# Altium schematic symbol library UOMP diode.SchLib: 20 symbols
Pins are listed as number, name and electrical type; pins without a type are passive.

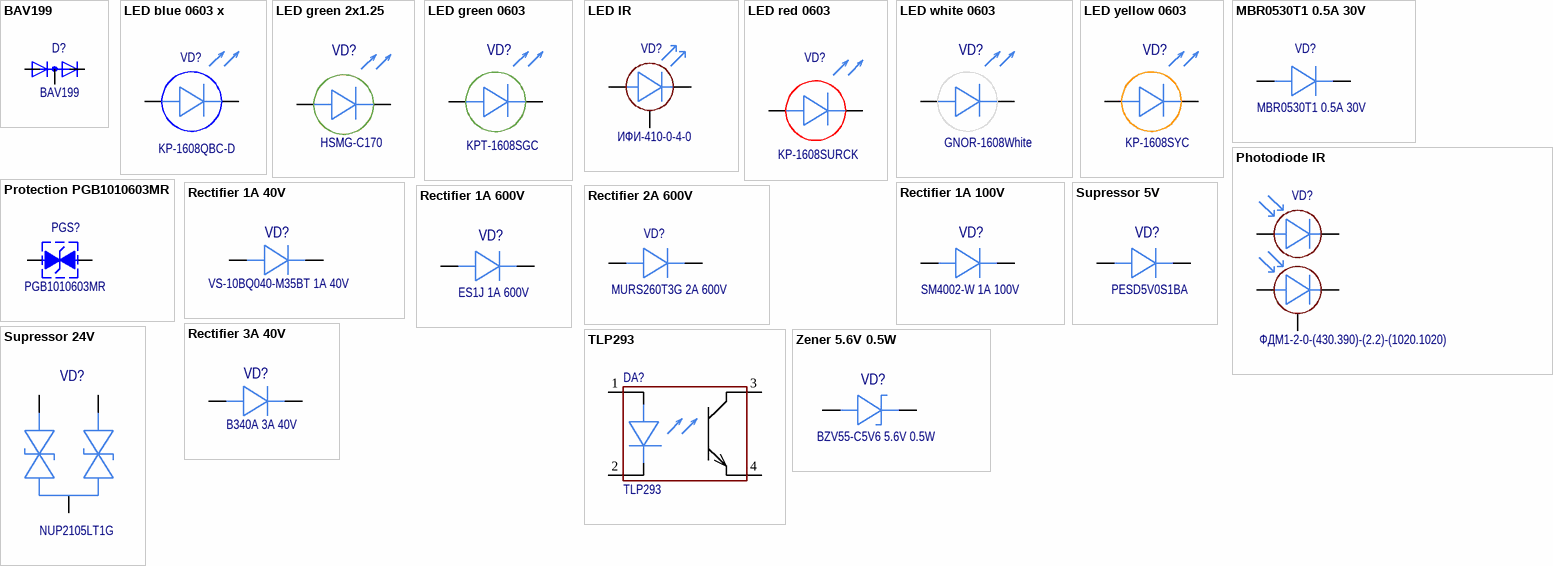
[diagram p0: symbols BAV199 to Zener 5.6V 0.5W]

## BAV199
designator D?
footprint IC: SOT 23
pins: 1 A, 2 C, 3 AC

## LED blue 0603 x
designator VD?, comment KP-1608QBC-D
Code: 6349991371; Name: Светодиод KP-1608QBC-D, KB
footprint DIODE: LED 0603(1608) blue
pins: 1, 2

## LED green 2x1.25
designator VD?, comment HSMG-C170
Code: 6349559170; Name: Светодиод HSMG-C170
footprint DIODE: LED 2x1.25
pins: 1, 2

## LED green 0603
designator VD?, comment KPT-1608SGC
Code: 6340003921; Name: Светодиод KPT-1608SGC, Kingbright
footprint DIODE: LED 0603(1608) green
pins: 1, 2

## LED IR
designator VD?, comment ИФИ-410-0-4-0
Code: 6349984601; Name: ИФИ-410-0-4-0
footprint DIODE: LED IR
pins: 1, 2, 3

## LED red 0603
designator VD?, comment KP-1608SURCK
Code: 6349551609; Name: Светодиод KP-1608SURCK
footprint DIODE: LED 0603(1608) red
pins: 1, 2

## LED white 0603
designator VD?, comment GNOR-1608White
Code: 6349996141; Name: Светодиод GNL-0603WC, G-NOR Electronics
footprint DIODE: LED 0603(1608) white
pins: 1, 2

## LED yellow 0603
designator VD?, comment KP-1608SYC
Code: 6349559616; Name: Светодиод KP-1608SYC
footprint DIODE: LED 0603(1608) yellow
pins: 1, 2

## MBR0530T1 0.5A 30V
designator VD?
footprint DIODE: SMA
pins: 1, 2

## Photodiode IR
designator VD?, comment ФДМ1-2-0-(430.390)-(2.2)-(1020.1020)
Code: 6339110781; Name: ФДМ1-2-0-(430.390)-(2.2)-(1020.1020)
footprint DIODE: PHOTODIODE IR
pins: 1, 2, 3, 4, 5

## Protection PGB1010603MR
designator PGS?, comment PGB1010603MR
footprint DIODE: 0603
pins: 1, 2

## Rectifier 1A 40V
designator VD?, comment VS-10BQ040-M35BT 1A 40V
Code: 6349982351; Name: Диод VS-10BQ040-M35BT, Vishay
footprint DIODE: SMB
pins: 1, 2

## Rectifier 1A 100V
designator VD?, comment SM4002-W 1A 100V
Code: 6341199702; Name: Диод SM4002-W, RECTRON
footprint DIODE: MELF
pins: 1, 2

## Rectifier 1A 600V
designator VD?, comment ES1J 1A 600V
Code: 6330004931; Name: Диод ES1J
footprint DIODE: SMA
pins: 1, 2

## Rectifier 2A 600V
designator VD?, comment MURS260T3G 2A 600V
Code: 6349990311; Name: Диод MURS260T3G, ONS
footprint DIODE: SMB
pins: 1, 2

## Rectifier 3A 40V
designator VD?, comment B340A 3A 40V
Code: 6349987171; Name: Диод B340A-E3/61T
footprint DIODE: SMA
pins: 1, 2

## Supressor 5V
designator VD?, comment PESD5V0S1BA
Code: 6349981061; Name: Супрессор PESD5V0S1BA, 115
footprint DIODE: SOD 323 MD IPC 782 (SODFL, 2-Leads, Body 1,30x2,50mm, IPC Medium Density)
pins: 1, 2

## Supressor 24V
designator VD?, comment NUP2105LT1G
Code: 6349980531; Name: Супрессор NUP2105LT1G
footprint IC: SOT 23
pins: 1, 2, 3

## TLP293
designator DA?
Code: 6349980301; Name: Оптопара TLP293-4(GB), Toshiba
footprint IC: SOP 16 (SOIC, 16-Leads, Body 10,0x4,0mm (max), Pitch 1,27mm, IPC Medium Density)
pins: 1 2, 2 1, 3 4, 4 3

## Zener 5.6V 0.5W
designator VD?, comment BZV55-C5V6 5.6V 0.5W
Code: 6341198556; Name: Стабилитрон BZV55-C5V6,115 Nexperia
footprint DIODE: SOD 80
pins: 1, 2